# EAGLE library part VNC2-64 (library ftdichip-6)
Vinculum-II 2nd Generation Dual USB Host Controller
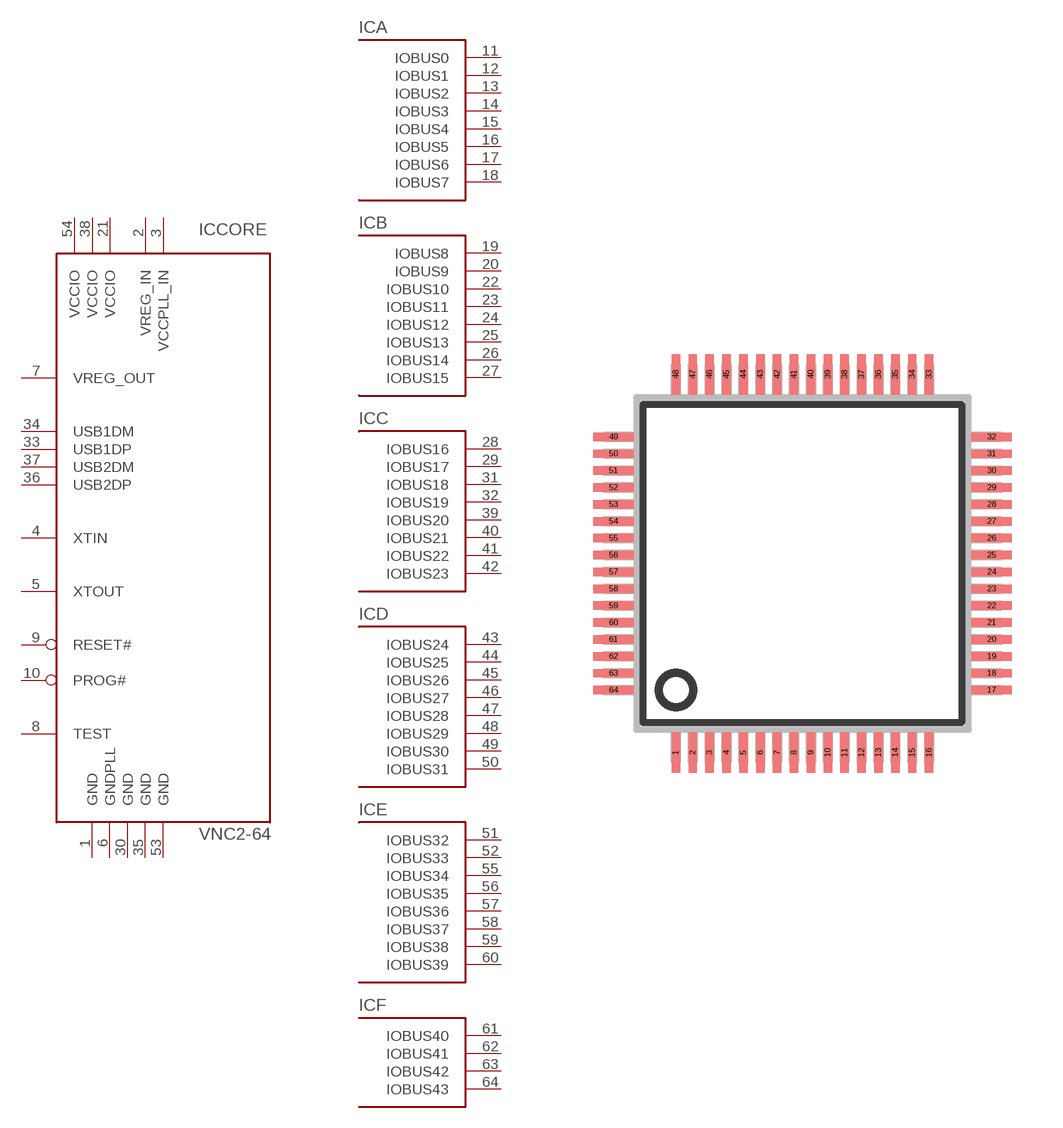
[diagram p11: symbol with the pads of LQFP64; footprint LQFP64]

Designator prefix IC; gates CORE=VNC2-64CORE A=VNC2-64PORT1 B=VNC2-64PORT2 C=VNC2-64PORT3 D=VNC2-64PORT4 E=VNC2-64PORT5 F=VNC2-64PORT6

## VNC2-64L1B  [LQFP64]
1  CORE:GND  pwr
2  CORE:VREG_IN  pwr
3  CORE:VCCPLL_IN  pwr
4  CORE:XTIN  in
5  CORE:XTOUT  out
6  CORE:GNDPLL  pwr
7  CORE:VREG_OUT  out
8  CORE:TEST  in
9  CORE:RESET#  in
10  CORE:PROG#  in
11  A:IOBUS0
12  A:IOBUS1
13  A:IOBUS2
14  A:IOBUS3
15  A:IOBUS4
16  A:IOBUS5
17  A:IOBUS6
18  A:IOBUS7
19  B:IOBUS8
20  B:IOBUS9
21  CORE:VCCIO  pwr
22  B:IOBUS10
23  B:IOBUS11
24  B:IOBUS12
25  B:IOBUS13
26  B:IOBUS14
27  B:IOBUS15
28  C:IOBUS16
29  C:IOBUS17
30  CORE:GND  pwr
31  C:IOBUS18
32  C:IOBUS19
33  CORE:USB1DP
34  CORE:USB1DM
35  CORE:GND  pwr
36  CORE:USB2DP
37  CORE:USB2DM
38  CORE:VCCIO  pwr
39  C:IOBUS20
40  C:IOBUS21
41  C:IOBUS22
42  C:IOBUS23
43  D:IOBUS24
44  D:IOBUS25
45  D:IOBUS26
46  D:IOBUS27
47  D:IOBUS28
48  D:IOBUS29
49  D:IOBUS30
50  D:IOBUS31
51  E:IOBUS32
52  E:IOBUS33
53  CORE:GND  pwr
54  CORE:VCCIO  pwr
55  E:IOBUS34
56  E:IOBUS35
57  E:IOBUS36
58  E:IOBUS37
59  E:IOBUS38
60  E:IOBUS39
61  F:IOBUS40
62  F:IOBUS41
63  F:IOBUS42
64  F:IOBUS43

## Footprint LQFP64 (pad centres in mm)
LQFP-64 package 10x10 mm case, 0.5 mm lead pitch
smd 0.25 x 1.2: 1 -3.75,-5.6; 2 -3.25,-5.6; 3 -2.75,-5.6; 4 -2.25,-5.6; 5 -1.75,-5.6; 6 -1.25,-5.6; 7 -0.75,-5.6; 8 -0.25,-5.6; 9 0.25,-5.6; 10 0.75,-5.6; 11 1.25,-5.6; 12 1.75,-5.6; 13 2.25,-5.6; 14 2.75,-5.6; 15 3.25,-5.6; 16 3.75,-5.6; 33 3.75,5.6; 34 3.25,5.6; 35 2.75,5.6; 36 2.25,5.6; 37 1.75,5.6; 38 1.25,5.6; 39 0.75,5.6; 40 0.25,5.6; 41 -0.25,5.6; 42 -0.75,5.6; 43 -1.25,5.6; 44 -1.75,5.6; 45 -2.25,5.6; 46 -2.75,5.6; 47 -3.25,5.6; 48 -3.75,5.6
smd 1.2 x 0.25: 17 5.6,-3.75; 18 5.6,-3.25; 19 5.6,-2.75; 20 5.6,-2.25; 21 5.6,-1.75; 22 5.6,-1.25; 23 5.6,-0.75; 24 5.6,-0.25; 25 5.6,0.25; 26 5.6,0.75; 27 5.6,1.25; 28 5.6,1.75; 29 5.6,2.25; 30 5.6,2.75; 31 5.6,3.25; 32 5.6,3.75; 49 -5.6,3.75; 50 -5.6,3.25; 51 -5.6,2.75; 52 -5.6,2.25; 53 -5.6,1.75; 54 -5.6,1.25; 55 -5.6,0.75; 56 -5.6,0.25; 57 -5.6,-0.25; 58 -5.6,-0.75; 59 -5.6,-1.25; 60 -5.6,-1.75; 61 -5.6,-2.25; 62 -5.6,-2.75; 63 -5.6,-3.25; 64 -5.6,-3.75